# EAGLE library part ?5B-ZR-SM4 (library con-jst)
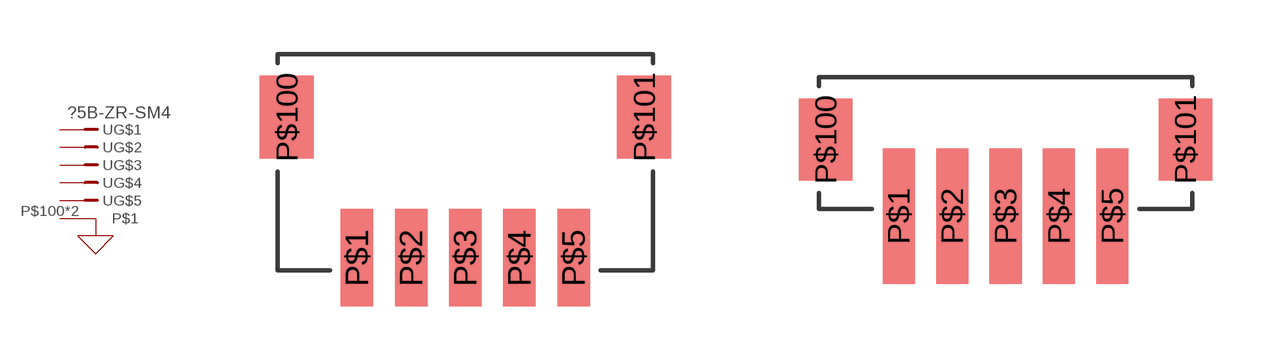
[diagram p22: symbol with the pads of S5B-ZR-SM4; footprints S5B-ZR-SM4, B5B-ZR-SM4]

Designator prefix -; gates G$1=PM-VN G$2=PM-N G$3=PM-N G$4=PM-N G$5=PM-N G$6=FRAME

## S5B-ZR-SM4  [S5B-ZR-SM4]
P$1  G$1:1  pas
P$2  G$2:1  pas
P$3  G$3:1  pas
P$4  G$4:1  pas
P$5  G$5:1  pas
P$100  G$6:P$1
P$101  G$6:P$1

## B5B-ZR-SM4  [B5B-ZR-SM4]
Pads as for S5B-ZR-SM4

## Footprint S5B-ZR-SM4 (pad centres in mm)
smd 0.9 x 2.7: P$1 -3,-5.65; P$2 -1.5,-5.65; P$3 0,-5.65; P$4 1.5,-5.65; P$5 3,-5.65
smd 1.5 x 2.3: P$100 -4.95,-1.75; P$101 4.95,-1.75

## Footprint B5B-ZR-SM4 (pad centres in mm)
smd 0.9 x 3.8: P$1 -3,-3.9; P$2 -1.5,-3.9; P$3 0,-3.9; P$4 1.5,-3.9; P$5 3,-3.9
smd 1.5 x 2.3: P$100 -5.05,-1.75; P$101 5.05,-1.75